# Altium footprint library Ante.PcbLib: 1 footprints
Each footprint in its own frame and in the unit in brackets; x right, y up, seen from the top. Pads: shape width x height; smd on the part's side, far side on the other; paste and mask are expansions set on the pad; w line width, h text height; cw(c..) or ccw(c..) is an arc to the next point about the centre after c.
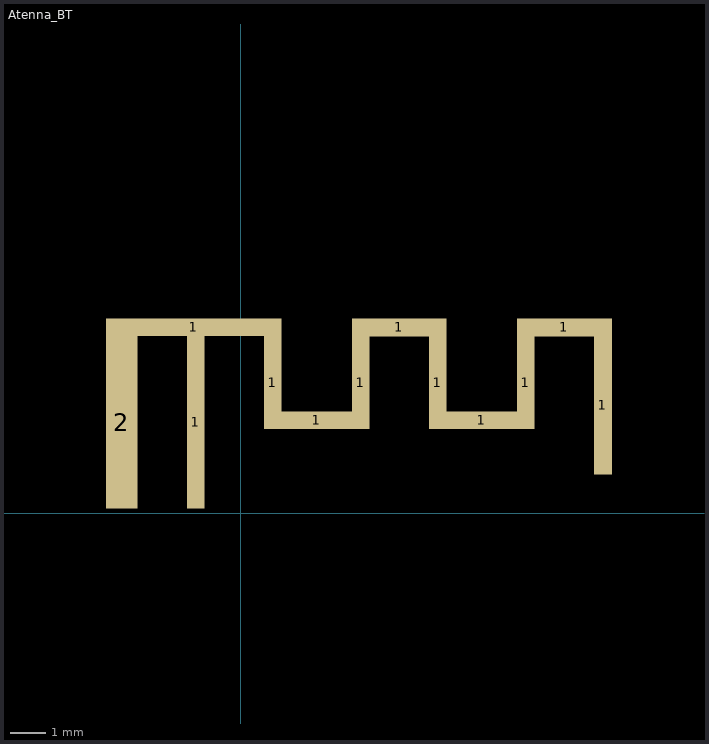
[diagram p0: the footprint, top view; thin cyan lines are the x and y axes]

## Atenna_BT [mm] "2.4 GHz"
pads (12):
  rect 5x0.5 smd mask+0: 1(-1.34,5.292)
  rect 0.5x4.9 smd mask+0: 1(-1.291,2.592)
  rect 0.5x2.64 smd mask+0: 1(0.91,3.722) 1(3.41,3.722) 1(5.61,3.722) 1(8.11,3.722)
  rect 2x0.5 smd mask+0: 1(2.16,2.652) 1(6.86,2.652)
  rect 2.7x0.5 smd mask+0: 1(4.51,5.292) 1(9.21,5.292)
  rect 0.5x3.94 smd mask+0: 1(10.31,3.071)
  rect 0.9x4.9 smd paste+0 mask+0: 2(-3.39,2.592)